# EAGLE library part CLOCK (library Fortech)
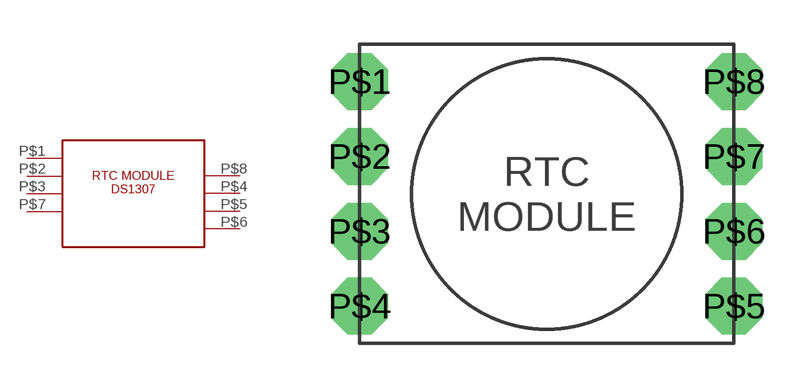
[diagram p7: symbol with the pads of CLOCK; footprint CLOCK]

Designator prefix -

## CLOCK  [CLOCK]
P$1  P$1
P$2  P$2
P$3  P$3
P$4  P$4
P$5  P$5
P$6  P$6
P$7  P$7
P$8  P$8

## Footprint CLOCK (pad centres in mm)
drill 1 pad 1.93 octagon: P$1 -6.35,3.81; P$2 -6.35,1.27; P$3 -6.35,-1.27; P$4 -6.35,-3.81; P$5 6.35,-3.81; P$6 6.35,-1.27; P$7 6.35,1.27; P$8 6.35,3.81